# Altium integrated library Capacitor - Aluminium TH.IntLib: 4591 symbols (part 53 of 68)
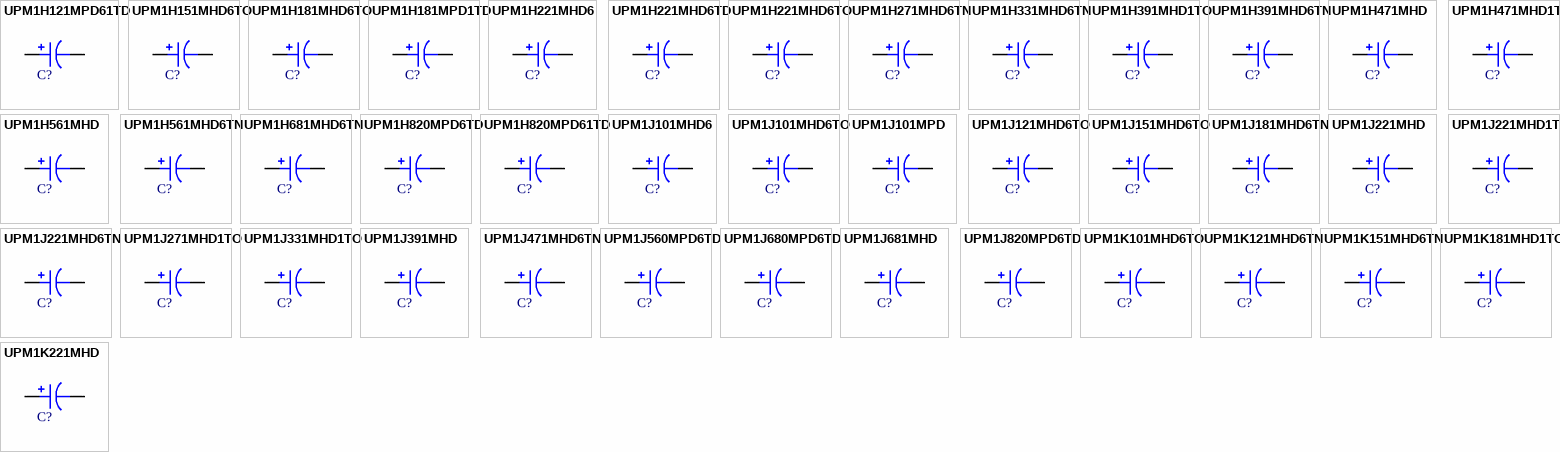
[diagram p166: symbols UPM1H121MPD61TD to UPM1K221MHD]

## UPM1J101MHD6
designator C?, comment 100uF  (value not drawn)
CAP ALUM 100UF 20% 63V RADIAL; Part Number: UPM1J101MHD6; Manufacturer: Nichicon; TemperatureRange: -55C ~ 105C; Type: Polar; Ripple Current: 460mA @ 120Hz; Impedance: 140 mOhm; Value: 100uF; PartId: 22727; Supplier 1: Digi-Key; Supplier Part Number 1: UPM1J101MHD6-ND; ComponentLink1Description: Datasheet; ComponentLink1URL: http://nichicon-us.com/english/products/pdfs/e-upm.pdf; ComponentLink2Description: Digi-Key Listing; ComponentLink2URL: https://www.digikey.com/product-detail/en/nichicon/UPM1J101MHD6/UPM1J101MHD6-ND/2428079; Tolerance: 20%; Voltage: 63V; Price: 0; Device Package: Radial, Can, 12.5mm
footprint CAP AL TH D12.5 L5 H16.5
pins: 1, 2

## UPM1J101MHD6TO
designator C?, comment 100uF  (value not drawn)
CAP ALUM 100UF 20% 63V RADIAL; Part Number: UPM1J101MHD6TO; Manufacturer: Nichicon; TemperatureRange: -55C ~ 105C; Type: Polar; Ripple Current: 460mA @ 120Hz; Impedance: 140 mOhm; Value: 100uF; PartId: 22739; Supplier 1: Digi-Key; Supplier Part Number 1: 493-11992-1-ND; ComponentLink1Description: Datasheet; ComponentLink1URL: http://nichicon-us.com/english/products/pdfs/e-upm.pdf; ComponentLink2Description: Digi-Key Listing; ComponentLink2URL: https://www.digikey.com/product-detail/en/nichicon/UPM1J101MHD6TO/493-11992-1-ND/4319613; Tolerance: 20%; Voltage: 63V; Price: 0; Device Package: Radial, Can, 12.5mm
footprint CAP AL TH D12.5 L5 H16.5
pins: 1, 2

## UPM1J101MPD
designator C?, comment 100uF  (value not drawn)
CAP ALUM 100UF 20% 63V RADIAL; Part Number: UPM1J101MPD; Manufacturer: Nichicon; TemperatureRange: -55C ~ 105C; Type: Polar; Ripple Current: 495mA @ 120Hz; Impedance: 120 mOhm; Value: 100uF; PartId: 25879; Supplier 1: Digi-Key; Supplier Part Number 1: UPM1J101MPD-ND; ComponentLink1Description: Datasheet; ComponentLink1URL: http://nichicon-us.com/english/products/pdfs/e-upm.pdf; ComponentLink2Description: Digi-Key Listing; ComponentLink2URL: https://www.digikey.com/product-detail/en/nichicon/UPM1J101MPD/UPM1J101MPD-ND/2428078; Tolerance: 20%; Voltage: 63V; Price: 0.64; Device Package: Radial, Can, 10mm
footprint CAP AL TH D10 L5 H22
pins: 1, 2

## UPM1J121MHD6TO
designator C?, comment 120uF  (value not drawn)
CAP ALUM 120UF 20% 63V RADIAL; Part Number: UPM1J121MHD6TO; Manufacturer: Nichicon; TemperatureRange: -55C ~ 105C; Type: Polar; Ripple Current: 510mA @ 120Hz; Impedance: 120 mOhm; Value: 120uF; PartId: 22814; Supplier 1: Digi-Key; Supplier Part Number 1: 493-5258-1-ND; ComponentLink1Description: Datasheet; ComponentLink1URL: http://nichicon-us.com/english/products/pdfs/e-upm.pdf; ComponentLink2Description: Digi-Key Listing; ComponentLink2URL: https://www.digikey.com/product-detail/en/nichicon/UPM1J121MHD6TO/493-5258-1-ND/3129595; Tolerance: 20%; Voltage: 63V; Price: 0; Device Package: Radial, Can, 12.5mm
footprint CAP AL TH D12.5 L5 H17.5
pins: 1, 2

## UPM1J151MHD6TO
designator C?, comment 150uF  (value not drawn)
CAP ALUM 150UF 20% 63V RADIAL; Part Number: UPM1J151MHD6TO; Manufacturer: Nichicon; TemperatureRange: -55C ~ 105C; Type: Polar; Ripple Current: 845mA @ 120Hz; Impedance: 95 mOhm; Value: 150uF; PartId: 22817; Supplier 1: Digi-Key; Supplier Part Number 1: 493-12066-1-ND; ComponentLink1Description: Datasheet; ComponentLink1URL: http://nichicon-us.com/english/products/pdfs/e-upm.pdf; ComponentLink2Description: Digi-Key Listing; ComponentLink2URL: https://www.digikey.com/product-detail/en/nichicon/UPM1J151MHD6TO/493-12066-1-ND/4319617; Tolerance: 20%; Voltage: 63V; Price: 0; Device Package: Radial, Can, 12.5mm
footprint CAP AL TH D12.5 L5 H17.5
pins: 1, 2

## UPM1J181MHD6TN
designator C?, comment 180uF  (value not drawn)
CAP ALUM 180UF 20% 63V RADIAL; Part Number: UPM1J181MHD6TN; Manufacturer: Nichicon; TemperatureRange: -55C ~ 105C; Type: Polar; Ripple Current: 750mA @ 120Hz; Impedance: 80 mOhm; Value: 180uF; PartId: 26264; Supplier 1: Digi-Key; Supplier Part Number 1: 493-5260-3-ND; ComponentLink1Description: Datasheet; ComponentLink1URL: http://nichicon-us.com/english/products/pdfs/e-upm.pdf; ComponentLink2Description: Digi-Key Listing; ComponentLink2URL: https://www.digikey.com/product-detail/en/nichicon/UPM1J181MHD6TN/493-5260-3-ND/3130265; Tolerance: 20%; Voltage: 63V; Price: 0.4223; Device Package: Radial, Can, 16mm
footprint CAP AL TH D16 L7.5 H16.5
pins: 1, 2

## UPM1J221MHD
designator C?, comment 220uF  (value not drawn)
CAP ALUM 220UF 20% 63V RADIAL; Part Number: UPM1J221MHD; Manufacturer: Nichicon; TemperatureRange: -55C ~ 105C; Type: Polar; Ripple Current: 835mA @ 120Hz; Impedance: 65 mOhm; Value: 220uF; PartId: 23315; Supplier 1: Digi-Key; Supplier Part Number 1: 493-6008-ND; ComponentLink1Description: Datasheet; ComponentLink1URL: http://nichicon-us.com/english/products/pdfs/e-upm.pdf; ComponentLink2Description: Digi-Key Listing; ComponentLink2URL: https://www.digikey.com/product-detail/en/nichicon/UPM1J221MHD/493-6008-ND/2599675; Tolerance: 20%; Voltage: 63V; Price: 0.82; Device Package: Radial, Can, 12.5mm
footprint CAP AL TH D12.5 L5 H22
pins: 1, 2

## UPM1J221MHD1TO
designator C?, comment 220uF  (value not drawn)
CAP ALUM 220UF 20% 63V RADIAL; Part Number: UPM1J221MHD1TO; Manufacturer: Nichicon; TemperatureRange: -55C ~ 105C; Type: Polar; Ripple Current: 835mA @ 120Hz; Impedance: 65 mOhm; Value: 220uF; PartId: 23162; Supplier 1: Digi-Key; Supplier Part Number 1: 493-12060-3-ND; ComponentLink1Description: Datasheet; ComponentLink1URL: http://nichicon-us.com/english/products/pdfs/e-upm.pdf; ComponentLink2Description: Digi-Key Listing; ComponentLink2URL: https://www.digikey.com/product-detail/en/nichicon/UPM1J221MHD1TO/493-12060-3-ND/4321203; Tolerance: 20%; Voltage: 63V; Price: 0.3287; Device Package: Radial, Can, 12.5mm
footprint CAP AL TH D12.5 L5 H22
pins: 1, 2

## UPM1J221MHD6TN
designator C?, comment 220uF  (value not drawn)
CAP ALUM 220UF 20% 63V RADIAL; Part Number: UPM1J221MHD6TN; Manufacturer: Nichicon; TemperatureRange: -55C ~ 105C; Type: Polar; Ripple Current: 820mA @ 120Hz; Impedance: 70 mOhm; Value: 220uF; PartId: 26274; Supplier 1: Digi-Key; Supplier Part Number 1: 493-12255-3-ND; ComponentLink1Description: Datasheet; ComponentLink1URL: http://nichicon-us.com/english/products/pdfs/e-upm.pdf; ComponentLink2Description: Digi-Key Listing; ComponentLink2URL: https://www.digikey.com/product-detail/en/nichicon/UPM1J221MHD6TN/493-12255-3-ND/4321398; Tolerance: 20%; Voltage: 63V; Price: 0.5822; Device Package: Radial, Can, 16mm
footprint CAP AL TH D16 L7.5 H20
pins: 1, 2

## UPM1J271MHD1TO
designator C?, comment 270uF  (value not drawn)
CAP ALUM 270UF 20% 63V RADIAL; Part Number: UPM1J271MHD1TO; Manufacturer: Nichicon; TemperatureRange: -55C ~ 105C; Type: Polar; Ripple Current: 1A @ 120Hz; Impedance: 55 mOhm; Value: 270uF; PartId: 23971; Supplier 1: Digi-Key; Supplier Part Number 1: 493-12118-1-ND; ComponentLink1Description: Datasheet; ComponentLink1URL: http://nichicon-us.com/english/products/pdfs/e-upm.pdf; ComponentLink2Description: Digi-Key Listing; ComponentLink2URL: https://www.digikey.com/product-detail/en/nichicon/UPM1J271MHD1TO/493-12118-1-ND/4319622; Tolerance: 20%; Voltage: 63V; Price: 1; Device Package: Radial, Can, 12.5mm
footprint CAP AL TH D12.5 L5 H27
pins: 1, 2

## UPM1J331MHD1TO
designator C?, comment 330uF  (value not drawn)
CAP ALUM 330UF 20% 63V RADIAL; Part Number: UPM1J331MHD1TO; Manufacturer: Nichicon; TemperatureRange: -55C ~ 105C; Type: Polar; Ripple Current: 1.09A @ 120Hz; Impedance: 49 mOhm; Value: 330uF; PartId: 23962; Supplier 1: Digi-Key; Supplier Part Number 1: 493-12152-1-ND; ComponentLink1Description: Datasheet; ComponentLink1URL: http://nichicon-us.com/english/products/pdfs/e-upm.pdf; ComponentLink2Description: Digi-Key Listing; ComponentLink2URL: https://www.digikey.com/product-detail/en/nichicon/UPM1J331MHD1TO/493-12152-1-ND/4319624; Tolerance: 20%; Voltage: 63V; Price: 0.98; Device Package: Radial, Can, 12.5mm
footprint CAP AL TH D12.5 L5 H27
pins: 1, 2

## UPM1J391MHD
designator C?, comment 390uF  (value not drawn)
CAP ALUM 390UF 20% 63V RADIAL; Part Number: UPM1J391MHD; Manufacturer: Nichicon; TemperatureRange: -55C ~ 105C; Type: Polar; Ripple Current: 1.26A @ 120Hz; Impedance: 43 mOhm; Value: 390uF; PartId: 24259; Supplier 1: Digi-Key; Supplier Part Number 1: 493-5618-ND; ComponentLink1Description: Datasheet; ComponentLink1URL: http://nichicon-us.com/english/products/pdfs/e-upm.pdf; ComponentLink2Description: Digi-Key Listing; ComponentLink2URL: https://www.digikey.com/product-detail/en/nichicon/UPM1J391MHD/493-5618-ND/2599683; Tolerance: 20%; Voltage: 63V; Price: 1.03; Device Package: Radial, Can, 12.5mm
footprint CAP AL TH D12.5 L5 H35.5
pins: 1, 2

## UPM1J471MHD6TN
designator C?, comment 470uF  (value not drawn)
CAP ALUM 470UF 20% 63V RADIAL; Part Number: UPM1J471MHD6TN; Manufacturer: Nichicon; TemperatureRange: -55C ~ 105C; Type: Polar; Ripple Current: 1.36A @ 120Hz; Impedance: 42 mOhm; Value: 470uF; PartId: 26772; Supplier 1: Digi-Key; Supplier Part Number 1: 493-7403-3-ND; ComponentLink1Description: Datasheet; ComponentLink1URL: http://nichicon-us.com/english/products/pdfs/e-upm.pdf; ComponentLink2Description: Digi-Key Listing; ComponentLink2URL: https://www.digikey.com/product-detail/en/nichicon/UPM1J471MHD6TN/493-7403-3-ND/3768716; Tolerance: 20%; Voltage: 63V; Price: 0.62; Device Package: Radial, Can, 16mm
footprint CAP AL TH D16 L7.5 H27
pins: 1, 2

## UPM1J560MPD6TD
designator C?, comment 56uF  (value not drawn)
CAP ALUM 56UF 20% 63V RADIAL; Part Number: UPM1J560MPD6TD; Manufacturer: Nichicon; TemperatureRange: -55C ~ 105C; Type: Polar; Ripple Current: 275mA @ 120Hz; Impedance: 230 mOhm; Value: 56uF; PartId: 24894; Supplier 1: Digi-Key; Supplier Part Number 1: 493-11793-1-ND; ComponentLink1Description: Datasheet; ComponentLink1URL: http://nichicon-us.com/english/products/pdfs/e-upm.pdf; ComponentLink2Description: Digi-Key Listing; ComponentLink2URL: https://www.digikey.com/product-detail/en/nichicon/UPM1J560MPD6TD/493-11793-1-ND/4319630; Tolerance: 20%; Voltage: 63V; Price: 0.48; Device Package: Radial, Can, 10mm
footprint CAP AL TH D10 L5 H14.5
pins: 1, 2

## UPM1J680MPD6TD
designator C?, comment 68uF  (value not drawn)
CAP ALUM 68UF 20% 63V RADIAL; Part Number: UPM1J680MPD6TD; Manufacturer: Nichicon; TemperatureRange: -55C ~ 105C; Type: Polar; Ripple Current: 310mA @ 120Hz; Impedance: 190 mOhm; Value: 68uF; PartId: 24577; Supplier 1: Digi-Key; Supplier Part Number 1: 493-11835-3-ND; ComponentLink1Description: Datasheet; ComponentLink1URL: http://nichicon-us.com/english/products/pdfs/e-upm.pdf; ComponentLink2Description: Digi-Key Listing; ComponentLink2URL: https://www.digikey.com/product-detail/en/nichicon/UPM1J680MPD6TD/493-11835-3-ND/4320978; Tolerance: 20%; Voltage: 63V; Price: 0.1612; Device Package: Radial, Can, 10mm
footprint CAP AL TH D10 L5 H14.5
pins: 1, 2

## UPM1J681MHD
designator C?, comment 680uF  (value not drawn)
CAP ALUM 680UF 20% 63V RADIAL; Part Number: UPM1J681MHD; Manufacturer: Nichicon; TemperatureRange: -55C ~ 105C; Type: Polar; Ripple Current: 1.7A @ 120Hz; Impedance: 32 mOhm; Value: 680uF; PartId: 27020; Supplier 1: Digi-Key; Supplier Part Number 1: 493-5619-ND; ComponentLink1Description: Datasheet; ComponentLink1URL: http://nichicon-us.com/english/products/pdfs/e-upm.pdf; ComponentLink2Description: Digi-Key Listing; ComponentLink2URL: https://www.digikey.com/product-detail/en/nichicon/UPM1J681MHD/493-5619-ND/2599693; Tolerance: 20%; Voltage: 63V; Price: 1.45; Device Package: Radial, Can, 16mm
footprint CAP AL TH D16 L7.5 H33.5
pins: 1, 2

## UPM1J820MPD6TD
designator C?, comment 82uF  (value not drawn)
CAP ALUM 82UF 20% 63V RADIAL; Part Number: UPM1J820MPD6TD; Manufacturer: Nichicon; TemperatureRange: -55C ~ 105C; Type: Polar; Ripple Current: 375mA @ 120Hz; Impedance: 160 mOhm; Value: 82uF; PartId: 25066; Supplier 1: Digi-Key; Supplier Part Number 1: 493-5266-3-ND; ComponentLink1Description: Datasheet; ComponentLink1URL: http://nichicon-us.com/english/products/pdfs/e-upm.pdf; ComponentLink2Description: Digi-Key Listing; ComponentLink2URL: https://www.digikey.com/product-detail/en/nichicon/UPM1J820MPD6TD/493-5266-3-ND/3130271; Tolerance: 20%; Voltage: 63V; Price: 0.225; Device Package: Radial, Can, 10mm
footprint CAP AL TH D10 L5 H17.5
pins: 1, 2

## UPM1K101MHD6TO
designator C?, comment 100uF  (value not drawn)
CAP ALUM 100UF 20% 80V RADIAL; Part Number: UPM1K101MHD6TO; Manufacturer: Nichicon; TemperatureRange: -55C ~ 105C; Type: Polar; Ripple Current: 400mA @ 120Hz; Impedance: 230 mOhm; Value: 100uF; PartId: 22812; Supplier 1: Digi-Key; Supplier Part Number 1: 493-12056-1-ND; ComponentLink1Description: Datasheet; ComponentLink1URL: http://nichicon-us.com/english/products/pdfs/e-upm.pdf; ComponentLink2Description: Digi-Key Listing; ComponentLink2URL: https://www.digikey.com/product-detail/en/nichicon/UPM1K101MHD6TO/493-12056-1-ND/4319634; Tolerance: 20%; Voltage: 80V; Price: 0; Device Package: Radial, Can, 12.5mm
footprint CAP AL TH D12.5 L5 H17.5
pins: 1, 2

## UPM1K121MHD6TN
designator C?, comment 120uF  (value not drawn)
CAP ALUM 120UF 20% 80V RADIAL; Part Number: UPM1K121MHD6TN; Manufacturer: Nichicon; TemperatureRange: -55C ~ 105C; Type: Polar; Ripple Current: 445mA @ 120Hz; Impedance: 200 mOhm; Value: 120uF; PartId: 26268; Supplier 1: Digi-Key; Supplier Part Number 1: 493-5269-3-ND; ComponentLink1Description: Datasheet; ComponentLink1URL: http://nichicon-us.com/english/products/pdfs/e-upm.pdf; ComponentLink2Description: Digi-Key Listing; ComponentLink2URL: https://www.digikey.com/product-detail/en/nichicon/UPM1K121MHD6TN/493-5269-3-ND/3130274; Tolerance: 20%; Voltage: 80V; Price: 0.514; Device Package: Radial, Can, 16mm
footprint CAP AL TH D16 L7.5 H20
pins: 1, 2

## UPM1K151MHD6TN
designator C?, comment 150uF  (value not drawn)
CAP ALUM 150UF 20% 80V RADIAL; Part Number: UPM1K151MHD6TN; Manufacturer: Nichicon; TemperatureRange: -55C ~ 105C; Type: Polar; Ripple Current: 470mA @ 120Hz; Impedance: 180 mOhm; Value: 150uF; PartId: 26275; Supplier 1: Digi-Key; Supplier Part Number 1: 493-5271-3-ND; ComponentLink1Description: Datasheet; ComponentLink1URL: http://nichicon-us.com/english/products/pdfs/e-upm.pdf; ComponentLink2Description: Digi-Key Listing; ComponentLink2URL: https://www.digikey.com/product-detail/en/nichicon/UPM1K151MHD6TN/493-5271-3-ND/3130276; Tolerance: 20%; Voltage: 80V; Price: 0.5838; Device Package: Radial, Can, 16mm
footprint CAP AL TH D16 L7.5 H20
pins: 1, 2

## UPM1K181MHD1TO
designator C?, comment 180uF  (value not drawn)
CAP ALUM 180UF 20% 80V RADIAL; Part Number: UPM1K181MHD1TO; Manufacturer: Nichicon; TemperatureRange: -55C ~ 105C; Type: Polar; Ripple Current: 735mA @ 120Hz; Impedance: 130 mOhm; Value: 180uF; PartId: 23826; Supplier 1: Digi-Key; Supplier Part Number 1: 493-5273-3-ND; ComponentLink1Description: Datasheet; ComponentLink1URL: http://nichicon-us.com/english/products/pdfs/e-upm.pdf; ComponentLink2Description: Digi-Key Listing; ComponentLink2URL: https://www.digikey.com/product-detail/en/nichicon/UPM1K181MHD1TO/493-5273-3-ND/3130278; Tolerance: 20%; Voltage: 80V; Price: 0.4493; Device Package: Radial, Can, 12.5mm
footprint CAP AL TH D12.5 L5 H27
pins: 1, 2

## UPM1K221MHD
designator C?, comment 220uF  (value not drawn)
CAP ALUM 220UF 20% 80V RADIAL; Part Number: UPM1K221MHD; Manufacturer: Nichicon; TemperatureRange: -55C ~ 105C; Type: Polar; Ripple Current: 845mA @ 120Hz; Impedance: 120 mOhm; Value: 220uF; PartId: 24234; Supplier 1: Digi-Key; Supplier Part Number 1: 493-5622-ND; ComponentLink1Description: Datasheet; ComponentLink1URL: http://nichicon-us.com/english/products/pdfs/e-upm.pdf; ComponentLink2Description: Digi-Key Listing; ComponentLink2URL: https://www.digikey.com/product-detail/en/nichicon/UPM1K221MHD/493-5622-ND/2599713; Tolerance: 20%; Voltage: 80V; Price: 0.98; Device Package: Radial, Can, 12.5mm
footprint CAP AL TH D12.5 L5 H35.5
pins: 1, 2

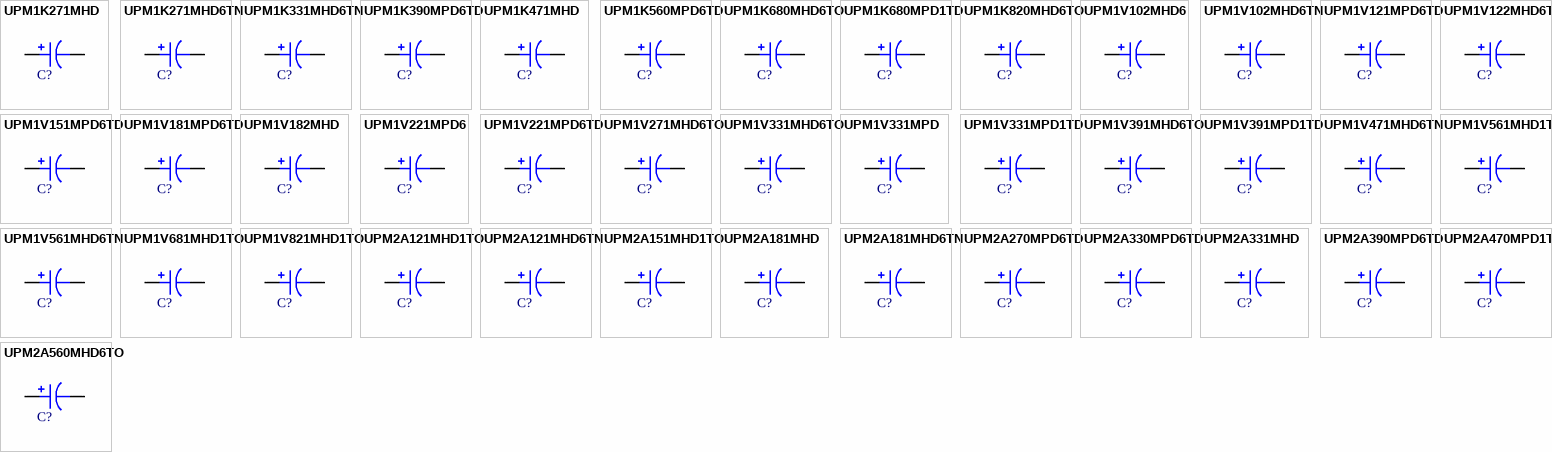
[diagram p88: symbols UPM1K271MHD to UPM2A560MHD6TO]

## UPM1K271MHD
designator C?, comment 270uF  (value not drawn)
CAP ALUM 270UF 20% 80V RADIAL; Part Number: UPM1K271MHD; Manufacturer: Nichicon; TemperatureRange: -55C ~ 105C; Type: Polar; Ripple Current: 945mA @ 120Hz; Impedance: 100 mOhm; Value: 270uF; PartId: 24273; Supplier 1: Digi-Key; Supplier Part Number 1: 493-5623-ND; ComponentLink1Description: Datasheet; ComponentLink1URL: http://nichicon-us.com/english/products/pdfs/e-upm.pdf; ComponentLink2Description: Digi-Key Listing; ComponentLink2URL: https://www.digikey.com/product-detail/en/nichicon/UPM1K271MHD/493-5623-ND/2599716; Tolerance: 20%; Voltage: 80V; Price: 1.06; Device Package: Radial, Can, 12.5mm
footprint CAP AL TH D12.5 L5 H35.5
pins: 1, 2

## UPM1K271MHD6TN
designator C?, comment 270uF  (value not drawn)
CAP ALUM 270UF 20% 80V RADIAL; Part Number: UPM1K271MHD6TN; Manufacturer: Nichicon; TemperatureRange: -55C ~ 105C; Type: Polar; Ripple Current: 920mA @ 120Hz; Impedance: 110 mOhm; Value: 270uF; PartId: 26353; Supplier 1: Digi-Key; Supplier Part Number 1: 493-5276-3-ND; ComponentLink1Description: Datasheet; ComponentLink1URL: http://nichicon-us.com/english/products/pdfs/e-upm.pdf; ComponentLink2Description: Digi-Key Listing; ComponentLink2URL: https://www.digikey.com/product-detail/en/nichicon/UPM1K271MHD6TN/493-5276-3-ND/3130281; Tolerance: 20%; Voltage: 80V; Price: 0.5065; Device Package: Radial, Can, 16mm
footprint CAP AL TH D16 L7.5 H22
pins: 1, 2

## UPM1K331MHD6TN
designator C?, comment 330uF  (value not drawn)
CAP ALUM 330UF 20% 80V RADIAL; Part Number: UPM1K331MHD6TN; Manufacturer: Nichicon; TemperatureRange: -55C ~ 105C; Type: Polar; Ripple Current: 1.1A @ 120Hz; Impedance: 99 mOhm; Value: 330uF; PartId: 26776; Supplier 1: Digi-Key; Supplier Part Number 1: 493-5277-3-ND; ComponentLink1Description: Datasheet; ComponentLink1URL: http://nichicon-us.com/english/products/pdfs/e-upm.pdf; ComponentLink2Description: Digi-Key Listing; ComponentLink2URL: https://www.digikey.com/product-detail/en/nichicon/UPM1K331MHD6TN/493-5277-3-ND/3130282; Tolerance: 20%; Voltage: 80V; Price: 0.6296; Device Package: Radial, Can, 16mm
footprint CAP AL TH D16 L7.5 H27
pins: 1, 2

## UPM1K390MPD6TD
designator C?, comment 39uF  (value not drawn)
CAP ALUM 39UF 20% 80V RADIAL; Part Number: UPM1K390MPD6TD; Manufacturer: Nichicon; TemperatureRange: -55C ~ 105C; Type: Polar; Ripple Current: 215mA @ 120Hz; Impedance: 490 mOhm; Value: 39uF; PartId: 24548; Supplier 1: Digi-Key; Supplier Part Number 1: 493-5279-3-ND; ComponentLink1Description: Datasheet; ComponentLink1URL: http://nichicon-us.com/english/products/pdfs/e-upm.pdf; ComponentLink2Description: Digi-Key Listing; ComponentLink2URL: https://www.digikey.com/product-detail/en/nichicon/UPM1K390MPD6TD/493-5279-3-ND/3130284; Tolerance: 20%; Voltage: 80V; Price: 0.148; Device Package: Radial, Can, 10mm
footprint CAP AL TH D10 L5 H14.5
pins: 1, 2

## UPM1K471MHD
designator C?, comment 470uF  (value not drawn)
CAP ALUM 470UF 20% 80V RADIAL; Part Number: UPM1K471MHD; Manufacturer: Nichicon; TemperatureRange: -55C ~ 105C; Type: Polar; Ripple Current: 1.43A @ 120Hz; Impedance: 69 mOhm; Value: 470uF; PartId: 27153; Supplier 1: Digi-Key; Supplier Part Number 1: 493-11131-ND; ComponentLink1Description: Datasheet; ComponentLink1URL: http://nichicon-us.com/english/products/pdfs/e-upm.pdf; ComponentLink2Description: Digi-Key Listing; ComponentLink2URL: https://www.digikey.com/product-detail/en/nichicon/UPM1K471MHD/493-11131-ND/2599727; Tolerance: 20%; Voltage: 80V; Price: 1.85; Device Package: Radial, Can, 16mm
footprint CAP AL TH D16 L7.5 H33.5
pins: 1, 2

## UPM1K560MPD6TD
designator C?, comment 56uF  (value not drawn)
CAP ALUM 56UF 20% 80V RADIAL; Part Number: UPM1K560MPD6TD; Manufacturer: Nichicon; TemperatureRange: -55C ~ 105C; Type: Polar; Ripple Current: 305mA @ 120Hz; Impedance: 360 mOhm; Value: 56uF; PartId: 25043; Supplier 1: Digi-Key; Supplier Part Number 1: 493-11901-3-ND; ComponentLink1Description: Datasheet; ComponentLink1URL: http://nichicon-us.com/english/products/pdfs/e-upm.pdf; ComponentLink2Description: Digi-Key Listing; ComponentLink2URL: https://www.digikey.com/product-detail/en/nichicon/UPM1K560MPD6TD/493-11901-3-ND/4321044; Tolerance: 20%; Voltage: 80V; Price: 0.192; Device Package: Radial, Can, 10mm
footprint CAP AL TH D10 L5 H17.5
pins: 1, 2

## UPM1K680MHD6TO
designator C?, comment 68uF  (value not drawn)
CAP ALUM 68UF 20% 80V RADIAL; Part Number: UPM1K680MHD6TO; Manufacturer: Nichicon; TemperatureRange: -55C ~ 105C; Type: Polar; Ripple Current: 325mA @ 120Hz; Impedance: 310 mOhm; Value: 68uF; PartId: 22809; Supplier 1: Digi-Key; Supplier Part Number 1: 493-5283-1-ND; ComponentLink1Description: Datasheet; ComponentLink1URL: http://nichicon-us.com/english/products/pdfs/e-upm.pdf; ComponentLink2Description: Digi-Key Listing; ComponentLink2URL: https://www.digikey.com/product-detail/en/nichicon/UPM1K680MHD6TO/493-5283-1-ND/3129620; Tolerance: 20%; Voltage: 80V; Price: 0; Device Package: Radial, Can, 12.5mm
footprint CAP AL TH D12.5 L5 H17.5
pins: 1, 2

## UPM1K680MPD1TD
designator C?, comment 68uF  (value not drawn)
CAP ALUM 68UF 20% 80V RADIAL; Part Number: UPM1K680MPD1TD; Manufacturer: Nichicon; TemperatureRange: -55C ~ 105C; Type: Polar; Ripple Current: 355mA @ 120Hz; Impedance: 280 mOhm; Value: 68uF; PartId: 25765; Supplier 1: Digi-Key; Supplier Part Number 1: 493-5284-3-ND; ComponentLink1Description: Datasheet; ComponentLink1URL: http://nichicon-us.com/english/products/pdfs/e-upm.pdf; ComponentLink2Description: Digi-Key Listing; ComponentLink2URL: https://www.digikey.com/product-detail/en/nichicon/UPM1K680MPD1TD/493-5284-3-ND/3130289; Tolerance: 20%; Voltage: 80V; Price: 0.2206; Device Package: Radial, Can, 10mm
footprint CAP AL TH D10 L5 H22
pins: 1, 2

## UPM1K820MHD6TO
designator C?, comment 82uF  (value not drawn)
CAP ALUM 82UF 20% 80V RADIAL; Part Number: UPM1K820MHD6TO; Manufacturer: Nichicon; TemperatureRange: -55C ~ 105C; Type: Polar; Ripple Current: 355mA @ 120Hz; Impedance: 270 mOhm; Value: 82uF; PartId: 22811; Supplier 1: Digi-Key; Supplier Part Number 1: 493-5286-1-ND; ComponentLink1Description: Datasheet; ComponentLink1URL: http://nichicon-us.com/english/products/pdfs/e-upm.pdf; ComponentLink2Description: Digi-Key Listing; ComponentLink2URL: https://www.digikey.com/product-detail/en/nichicon/UPM1K820MHD6TO/493-5286-1-ND/3129623; Tolerance: 20%; Voltage: 80V; Price: 0; Device Package: Radial, Can, 12.5mm
footprint CAP AL TH D12.5 L5 H17.5
pins: 1, 2

## UPM1V102MHD6
designator C?, comment 1000uF  (value not drawn)
CAP ALUM 1000UF 20% 35V RADIAL; Part Number: UPM1V102MHD6; Manufacturer: Nichicon; TemperatureRange: -55C ~ 105C; Type: Polar; Ripple Current: 1.53A @ 120Hz; Impedance: 34 mOhm; Value: 1000uF; PartId: 26441; Supplier 1: Digi-Key; Supplier Part Number 1: UPM1V102MHD6-ND; ComponentLink1Description: Datasheet; ComponentLink1URL: http://nichicon-us.com/english/products/pdfs/e-upm.pdf; ComponentLink2Description: Digi-Key Listing; ComponentLink2URL: https://www.digikey.com/product-detail/en/nichicon/UPM1V102MHD6/UPM1V102MHD6-ND/2599743; Tolerance: 20%; Voltage: 35V; Price: 1.37; Device Package: Radial, Can, 16mm
footprint CAP AL TH D16 L7.5 H22
pins: 1, 2

## UPM1V102MHD6TN
designator C?, comment 1000uF  (value not drawn)
CAP ALUM 1000UF 20% 35V RADIAL; Part Number: UPM1V102MHD6TN; Manufacturer: Nichicon; TemperatureRange: -55C ~ 105C; Type: Polar; Ripple Current: 1.53A @ 120Hz; Impedance: 34 mOhm; Value: 1000uF; PartId: 26371; Supplier 1: Digi-Key; Supplier Part Number 1: 493-12252-3-ND; ComponentLink1Description: Datasheet; ComponentLink1URL: http://nichicon-us.com/english/products/pdfs/e-upm.pdf; ComponentLink2Description: Digi-Key Listing; ComponentLink2URL: https://www.digikey.com/product-detail/en/nichicon/UPM1V102MHD6TN/493-12252-3-ND/4321395; Tolerance: 20%; Voltage: 35V; Price: 0.5792; Device Package: Radial, Can, 16mm
footprint CAP AL TH D16 L7.5 H22
pins: 1, 2

## UPM1V121MPD6TD
designator C?, comment 120uF  (value not drawn)
CAP ALUM 120UF 20% 35V RADIAL; Part Number: UPM1V121MPD6TD; Manufacturer: Nichicon; TemperatureRange: -55C ~ 105C; Type: Polar; Ripple Current: 425mA @ 120Hz; Impedance: 150 mOhm; Value: 120uF; PartId: 24550; Supplier 1: Digi-Key; Supplier Part Number 1: 493-5288-3-ND; ComponentLink1Description: Datasheet; ComponentLink1URL: http://nichicon-us.com/english/products/pdfs/e-upm.pdf; ComponentLink2Description: Digi-Key Listing; ComponentLink2URL: https://www.digikey.com/product-detail/en/nichicon/UPM1V121MPD6TD/493-5288-3-ND/3130293; Tolerance: 20%; Voltage: 35V; Price: 0.1484; Device Package: Radial, Can, 10mm
footprint CAP AL TH D10 L5 H14.5
pins: 1, 2

## UPM1V122MHD6TN
designator C?, comment 1200uF  (value not drawn)
CAP ALUM 1200UF 20% 35V RADIAL; Part Number: UPM1V122MHD6TN; Manufacturer: Nichicon; TemperatureRange: -55C ~ 105C; Type: Polar; Ripple Current: 1.92A @ 120Hz; Impedance: 31 mOhm; Value: 1200uF; PartId: 26783; Supplier 1: Digi-Key; Supplier Part Number 1: 493-5289-3-ND; ComponentLink1Description: Datasheet; ComponentLink1URL: http://nichicon-us.com/english/products/pdfs/e-upm.pdf; ComponentLink2Description: Digi-Key Listing; ComponentLink2URL: https://www.digikey.com/product-detail/en/nichicon/UPM1V122MHD6TN/493-5289-3-ND/3130294; Tolerance: 20%; Voltage: 35V; Price: 0.6568; Device Package: Radial, Can, 16mm
footprint CAP AL TH D16 L7.5 H27
pins: 1, 2

## UPM1V151MPD6TD
designator C?, comment 150uF  (value not drawn)
CAP ALUM 150UF 20% 35V RADIAL; Part Number: UPM1V151MPD6TD; Manufacturer: Nichicon; TemperatureRange: -55C ~ 105C; Type: Polar; Ripple Current: 475mA @ 120Hz; Impedance: 120 mOhm; Value: 150uF; PartId: 24546; Supplier 1: Digi-Key; Supplier Part Number 1: 493-11795-3-ND; ComponentLink1Description: Datasheet; ComponentLink1URL: http://nichicon-us.com/english/products/pdfs/e-upm.pdf; ComponentLink2Description: Digi-Key Listing; ComponentLink2URL: https://www.digikey.com/product-detail/en/nichicon/UPM1V151MPD6TD/493-11795-3-ND/4320938; Tolerance: 20%; Voltage: 35V; Price: 0.148; Device Package: Radial, Can, 10mm
footprint CAP AL TH D10 L5 H14.5
pins: 1, 2

## UPM1V181MPD6TD
designator C?, comment 180uF  (value not drawn)
CAP ALUM 180UF 20% 35V RADIAL; Part Number: UPM1V181MPD6TD; Manufacturer: Nichicon; TemperatureRange: -55C ~ 105C; Type: Polar; Ripple Current: 500mA @ 120Hz; Impedance: 110 mOhm; Value: 180uF; PartId: 25050; Supplier 1: Digi-Key; Supplier Part Number 1: 493-5290-3-ND; ComponentLink1Description: Datasheet; ComponentLink1URL: http://nichicon-us.com/english/products/pdfs/e-upm.pdf; ComponentLink2Description: Digi-Key Listing; ComponentLink2URL: https://www.digikey.com/product-detail/en/nichicon/UPM1V181MPD6TD/493-5290-3-ND/3130295; Tolerance: 20%; Voltage: 35V; Price: 0.2038; Device Package: Radial, Can, 10mm
footprint CAP AL TH D10 L5 H17.5
pins: 1, 2

## UPM1V182MHD
designator C?, comment 1800uF  (value not drawn)
CAP ALUM 1800UF 20% 35V RADIAL; Part Number: UPM1V182MHD; Manufacturer: Nichicon; TemperatureRange: -55C ~ 105C; Type: Polar; Ripple Current: 2.25A @ 120Hz; Impedance: 22 mOhm; Value: 1800uF; PartId: 27163; Supplier 1: Digi-Key; Supplier Part Number 1: 493-11132-ND; ComponentLink1Description: Datasheet; ComponentLink1URL: http://nichicon-us.com/english/products/pdfs/e-upm.pdf; ComponentLink2Description: Digi-Key Listing; ComponentLink2URL: https://www.digikey.com/product-detail/en/nichicon/UPM1V182MHD/493-11132-ND/2599753; Tolerance: 20%; Voltage: 35V; Price: 1.87; Device Package: Radial, Can, 16mm
footprint CAP AL TH D16 L7.5 H33.5
pins: 1, 2

## UPM1V221MPD6
designator C?, comment 220uF  (value not drawn)
CAP ALUM 220UF 20% 35V RADIAL; Part Number: UPM1V221MPD6; Manufacturer: Nichicon; TemperatureRange: -55C ~ 105C; Type: Polar; Ripple Current: 600mA @ 120Hz; Impedance: 90 mOhm; Value: 220uF; PartId: 25275; Supplier 1: Digi-Key; Supplier Part Number 1: UPM1V221MPD6-ND; ComponentLink1Description: Datasheet; ComponentLink1URL: http://nichicon-us.com/english/products/pdfs/e-upm.pdf; ComponentLink2Description: Digi-Key Listing; ComponentLink2URL: https://www.digikey.com/product-detail/en/nichicon/UPM1V221MPD6/UPM1V221MPD6-ND/2428074; Tolerance: 20%; Voltage: 35V; Price: 0.61; Device Package: Radial, Can, 10mm
footprint CAP AL TH D10 L5 H17.5
pins: 1, 2

## UPM1V221MPD6TD
designator C?, comment 220uF  (value not drawn)
CAP ALUM 220UF 20% 35V RADIAL; Part Number: UPM1V221MPD6TD; Manufacturer: Nichicon; TemperatureRange: -55C ~ 105C; Type: Polar; Ripple Current: 600mA @ 120Hz; Impedance: 90 mOhm; Value: 220uF; PartId: 25052; Supplier 1: Digi-Key; Supplier Part Number 1: 493-11934-3-ND; ComponentLink1Description: Datasheet; ComponentLink1URL: http://nichicon-us.com/english/products/pdfs/e-upm.pdf; ComponentLink2Description: Digi-Key Listing; ComponentLink2URL: https://www.digikey.com/product-detail/en/nichicon/UPM1V221MPD6TD/493-11934-3-ND/4321077; Tolerance: 20%; Voltage: 35V; Price: 0.2096; Device Package: Radial, Can, 10mm
footprint CAP AL TH D10 L5 H17.5
pins: 1, 2

## UPM1V271MHD6TO
designator C?, comment 270uF  (value not drawn)
CAP ALUM 270UF 20% 35V RADIAL; Part Number: UPM1V271MHD6TO; Manufacturer: Nichicon; TemperatureRange: -55C ~ 105C; Type: Polar; Ripple Current: 690mA @ 120Hz; Impedance: 80 mOhm; Value: 270uF; PartId: 22807; Supplier 1: Digi-Key; Supplier Part Number 1: 493-12023-1-ND; ComponentLink1Description: Datasheet; ComponentLink1URL: http://nichicon-us.com/english/products/pdfs/e-upm.pdf; ComponentLink2Description: Digi-Key Listing; ComponentLink2URL: https://www.digikey.com/product-detail/en/nichicon/UPM1V271MHD6TO/493-12023-1-ND/4319654; Tolerance: 20%; Voltage: 35V; Price: 0; Device Package: Radial, Can, 12.5mm
footprint CAP AL TH D12.5 L5 H17.5
pins: 1, 2

## UPM1V331MHD6TO
designator C?, comment 330uF  (value not drawn)
CAP ALUM 330UF 20% 35V RADIAL; Part Number: UPM1V331MHD6TO; Manufacturer: Nichicon; TemperatureRange: -55C ~ 105C; Type: Polar; Ripple Current: 780mA @ 120Hz; Impedance: 65 mOhm; Value: 330uF; PartId: 22806; Supplier 1: Digi-Key; Supplier Part Number 1: 493-12024-1-ND; ComponentLink1Description: Datasheet; ComponentLink1URL: http://nichicon-us.com/english/products/pdfs/e-upm.pdf; ComponentLink2Description: Digi-Key Listing; ComponentLink2URL: https://www.digikey.com/product-detail/en/nichicon/UPM1V331MHD6TO/493-12024-1-ND/4319657; Tolerance: 20%; Voltage: 35V; Price: 0; Device Package: Radial, Can, 12.5mm
footprint CAP AL TH D12.5 L5 H17.5
pins: 1, 2

## UPM1V331MPD
designator C?, comment 330uF  (value not drawn)
CAP ALUM 330UF 20% 35V RADIAL; Part Number: UPM1V331MPD; Manufacturer: Nichicon; TemperatureRange: -55C ~ 105C; Type: Polar; Ripple Current: 810mA @ 120Hz; Impedance: 60 mOhm; Value: 330uF; PartId: 25859; Supplier 1: Digi-Key; Supplier Part Number 1: UPM1V331MPD-ND; ComponentLink1Description: Datasheet; ComponentLink1URL: http://nichicon-us.com/english/products/pdfs/e-upm.pdf; ComponentLink2Description: Digi-Key Listing; ComponentLink2URL: https://www.digikey.com/product-detail/en/nichicon/UPM1V331MPD/UPM1V331MPD-ND/2428072; Tolerance: 20%; Voltage: 35V; Price: 0.59; Device Package: Radial, Can, 10mm
footprint CAP AL TH D10 L5 H22
pins: 1, 2

## UPM1V331MPD1TD
designator C?, comment 330uF  (value not drawn)
CAP ALUM 330UF 20% 35V RADIAL; Part Number: UPM1V331MPD1TD; Manufacturer: Nichicon; TemperatureRange: -55C ~ 105C; Type: Polar; Ripple Current: 810mA @ 120Hz; Impedance: 60 mOhm; Value: 330uF; PartId: 25752; Supplier 1: Digi-Key; Supplier Part Number 1: 493-11134-3-ND; ComponentLink1Description: Datasheet; ComponentLink1URL: http://nichicon-us.com/english/products/pdfs/e-upm.pdf; ComponentLink2Description: Digi-Key Listing; ComponentLink2URL: https://www.digikey.com/product-detail/en/nichicon/UPM1V331MPD1TD/493-11134-3-ND/3878178; Tolerance: 20%; Voltage: 35V; Price: 0.2026; Device Package: Radial, Can, 10mm
footprint CAP AL TH D10 L5 H22
pins: 1, 2

## UPM1V391MHD6TO
designator C?, comment 390uF  (value not drawn)
CAP ALUM 390UF 20% 35V RADIAL; Part Number: UPM1V391MHD6TO; Manufacturer: Nichicon; TemperatureRange: -55C ~ 105C; Type: Polar; Ripple Current: 825mA @ 120Hz; Impedance: 60 mOhm; Value: 390uF; PartId: 22805; Supplier 1: Digi-Key; Supplier Part Number 1: 493-12051-1-ND; ComponentLink1Description: Datasheet; ComponentLink1URL: http://nichicon-us.com/english/products/pdfs/e-upm.pdf; ComponentLink2Description: Digi-Key Listing; ComponentLink2URL: https://www.digikey.com/product-detail/en/nichicon/UPM1V391MHD6TO/493-12051-1-ND/4319660; Tolerance: 20%; Voltage: 35V; Price: 0; Device Package: Radial, Can, 12.5mm
footprint CAP AL TH D12.5 L5 H17.5
pins: 1, 2

## UPM1V391MPD1TD
designator C?, comment 390uF  (value not drawn)
CAP ALUM 390UF 20% 35V RADIAL; Part Number: UPM1V391MPD1TD; Manufacturer: Nichicon; TemperatureRange: -55C ~ 105C; Type: Polar; Ripple Current: 980mA @ 120Hz; Impedance: 55 mOhm; Value: 390uF; PartId: 26013; Supplier 1: Digi-Key; Supplier Part Number 1: 493-7405-2-ND; ComponentLink1Description: Datasheet; ComponentLink1URL: http://nichicon-us.com/english/products/pdfs/e-upm.pdf; ComponentLink2Description: Digi-Key Listing; ComponentLink2URL: https://www.digikey.com/product-detail/en/nichicon/UPM1V391MPD1TD/493-7405-2-ND/3768720; Tolerance: 20%; Voltage: 35V; Price: 0.2967; Device Package: Radial, Can, 10mm
footprint CAP AL TH D10 L5 H30
pins: 1, 2

## UPM1V471MHD6TN
designator C?, comment 470uF  (value not drawn)
CAP ALUM 470UF 20% 35V RADIAL; Part Number: UPM1V471MHD6TN; Manufacturer: Nichicon; TemperatureRange: -55C ~ 105C; Type: Polar; Ripple Current: 1.01A @ 120Hz; Impedance: 55 mOhm; Value: 470uF; PartId: 26269; Supplier 1: Digi-Key; Supplier Part Number 1: 493-12209-3-ND; ComponentLink1Description: Datasheet; ComponentLink1URL: http://nichicon-us.com/english/products/pdfs/e-upm.pdf; ComponentLink2Description: Digi-Key Listing; ComponentLink2URL: https://www.digikey.com/product-detail/en/nichicon/UPM1V471MHD6TN/493-12209-3-ND/4321352; Tolerance: 20%; Voltage: 35V; Price: 0.5376; Device Package: Radial, Can, 16mm
footprint CAP AL TH D16 L7.5 H20
pins: 1, 2

## UPM1V561MHD1TO
designator C?, comment 560uF  (value not drawn)
CAP ALUM 560UF 20% 35V RADIAL; Part Number: UPM1V561MHD1TO; Manufacturer: Nichicon; TemperatureRange: -55C ~ 105C; Type: Polar; Ripple Current: 1.17A @ 120Hz; Impedance: 41 mOhm; Value: 560uF; PartId: 23144; Supplier 1: Digi-Key; Supplier Part Number 1: 493-7406-2-ND; ComponentLink1Description: Datasheet; ComponentLink1URL: http://nichicon-us.com/english/products/pdfs/e-upm.pdf; ComponentLink2Description: Digi-Key Listing; ComponentLink2URL: https://www.digikey.com/product-detail/en/nichicon/UPM1V561MHD1TO/493-7406-2-ND/3768722; Tolerance: 20%; Voltage: 35V; Price: 0.2774; Device Package: Radial, Can, 12.5mm
footprint CAP AL TH D12.5 L5 H22
pins: 1, 2

## UPM1V561MHD6TN
designator C?, comment 560uF  (value not drawn)
CAP ALUM 560UF 20% 35V RADIAL; Part Number: UPM1V561MHD6TN; Manufacturer: Nichicon; TemperatureRange: -55C ~ 105C; Type: Polar; Ripple Current: 1.11A @ 120Hz; Impedance: 48 mOhm; Value: 560uF; PartId: 26270; Supplier 1: Digi-Key; Supplier Part Number 1: 493-12210-3-ND; ComponentLink1Description: Datasheet; ComponentLink1URL: http://nichicon-us.com/english/products/pdfs/e-upm.pdf; ComponentLink2Description: Digi-Key Listing; ComponentLink2URL: https://www.digikey.com/product-detail/en/nichicon/UPM1V561MHD6TN/493-12210-3-ND/4321353; Tolerance: 20%; Voltage: 35V; Price: 0.5376; Device Package: Radial, Can, 16mm
footprint CAP AL TH D16 L7.5 H20
pins: 1, 2

## UPM1V681MHD1TO
designator C?, comment 680uF  (value not drawn)
CAP ALUM 680UF 20% 35V RADIAL; Part Number: UPM1V681MHD1TO; Manufacturer: Nichicon; TemperatureRange: -55C ~ 105C; Type: Polar; Ripple Current: 1.41A @ 120Hz; Impedance: 36 mOhm; Value: 680uF; PartId: 24005; Supplier 1: Digi-Key; Supplier Part Number 1: 493-7407-1-ND; ComponentLink1Description: Datasheet; ComponentLink1URL: http://nichicon-us.com/english/products/pdfs/e-upm.pdf; ComponentLink2Description: Digi-Key Listing; ComponentLink2URL: https://www.digikey.com/product-detail/en/nichicon/UPM1V681MHD1TO/493-7407-1-ND/3768723; Tolerance: 20%; Voltage: 35V; Price: 1.05; Device Package: Radial, Can, 12.5mm
footprint CAP AL TH D12.5 L5 H27
pins: 1, 2

## UPM1V821MHD1TO
designator C?, comment 820uF  (value not drawn)
CAP ALUM 820UF 20% 35V RADIAL; Part Number: UPM1V821MHD1TO; Manufacturer: Nichicon; TemperatureRange: -55C ~ 105C; Type: Polar; Ripple Current: 1.49A @ 120Hz; Impedance: 32 mOhm; Value: 820uF; PartId: 24059; Supplier 1: Digi-Key; Supplier Part Number 1: 493-12213-1-ND; ComponentLink1Description: Datasheet; ComponentLink1URL: http://nichicon-us.com/english/products/pdfs/e-upm.pdf; ComponentLink2Description: Digi-Key Listing; ComponentLink2URL: https://www.digikey.com/product-detail/en/nichicon/UPM1V821MHD1TO/493-12213-1-ND/4319667; Tolerance: 20%; Voltage: 35V; Price: 1.17; Device Package: Radial, Can, 12.5mm
footprint CAP AL TH D12.5 L5 H27
pins: 1, 2

## UPM2A121MHD1TO
designator C?, comment 120uF  (value not drawn)
CAP ALUM 120UF 20% 100V RADIAL; Part Number: UPM2A121MHD1TO; Manufacturer: Nichicon; TemperatureRange: -55C ~ 105C; Type: Polar; Ripple Current: 700mA @ 120Hz; Impedance: 130 mOhm; Value: 120uF; PartId: 23827; Supplier 1: Digi-Key; Supplier Part Number 1: 493-5294-3-ND; ComponentLink1Description: Datasheet; ComponentLink1URL: http://nichicon-us.com/english/products/pdfs/e-upm.pdf; ComponentLink2Description: Digi-Key Listing; ComponentLink2URL: https://www.digikey.com/product-detail/en/nichicon/UPM2A121MHD1TO/493-5294-3-ND/3130299; Tolerance: 20%; Voltage: 100V; Price: 0.4493; Device Package: Radial, Can, 12.5mm
footprint CAP AL TH D12.5 L5 H27
pins: 1, 2

## UPM2A121MHD6TN
designator C?, comment 120uF  (value not drawn)
CAP ALUM 120UF 20% 100V RADIAL; Part Number: UPM2A121MHD6TN; Manufacturer: Nichicon; TemperatureRange: -55C ~ 105C; Type: Polar; Ripple Current: 535mA @ 120Hz; Impedance: 140 mOhm; Value: 120uF; PartId: 26277; Supplier 1: Digi-Key; Supplier Part Number 1: 493-5295-3-ND; ComponentLink1Description: Datasheet; ComponentLink1URL: http://nichicon-us.com/english/products/pdfs/e-upm.pdf; ComponentLink2Description: Digi-Key Listing; ComponentLink2URL: https://www.digikey.com/product-detail/en/nichicon/UPM2A121MHD6TN/493-5295-3-ND/3130300; Tolerance: 20%; Voltage: 100V; Price: 0.6498; Device Package: Radial, Can, 16mm
footprint CAP AL TH D16 L7.5 H20
pins: 1, 2

## UPM2A151MHD1TO
designator C?, comment 150uF  (value not drawn)
CAP ALUM 150UF 20% 100V RADIAL; Part Number: UPM2A151MHD1TO; Manufacturer: Nichicon; TemperatureRange: -55C ~ 105C; Type: Polar; Ripple Current: 780mA @ 120Hz; Impedance: 110 mOhm; Value: 150uF; PartId: 24041; Supplier 1: Digi-Key; Supplier Part Number 1: 493-12200-1-ND; ComponentLink1Description: Datasheet; ComponentLink1URL: http://nichicon-us.com/english/products/pdfs/e-upm.pdf; ComponentLink2Description: Digi-Key Listing; ComponentLink2URL: https://www.digikey.com/product-detail/en/nichicon/UPM2A151MHD1TO/493-12200-1-ND/4319671; Tolerance: 20%; Voltage: 100V; Price: 1.12; Device Package: Radial, Can, 12.5mm
footprint CAP AL TH D12.5 L5 H27
pins: 1, 2

## UPM2A181MHD
designator C?, comment 180uF  (value not drawn)
CAP ALUM 180UF 20% 100V RADIAL; Part Number: UPM2A181MHD; Manufacturer: Nichicon; TemperatureRange: -55C ~ 105C; Type: Polar; Ripple Current: 900mA @ 120Hz; Impedance: 98 mOhm; Value: 180uF; PartId: 24284; Supplier 1: Digi-Key; Supplier Part Number 1: 493-5633-ND; ComponentLink1Description: Datasheet; ComponentLink1URL: http://nichicon-us.com/english/products/pdfs/e-upm.pdf; ComponentLink2Description: Digi-Key Listing; ComponentLink2URL: https://www.digikey.com/product-detail/en/nichicon/UPM2A181MHD/493-5633-ND/2599792; Tolerance: 20%; Voltage: 100V; Price: 1.1; Device Package: Radial, Can, 12.5mm
footprint CAP AL TH D12.5 L5 H35.5
pins: 1, 2

## UPM2A181MHD6TN
designator C?, comment 180uF  (value not drawn)
CAP ALUM 180UF 20% 100V RADIAL; Part Number: UPM2A181MHD6TN; Manufacturer: Nichicon; TemperatureRange: -55C ~ 105C; Type: Polar; Ripple Current: 880mA @ 120Hz; Impedance: 110 mOhm; Value: 180uF; PartId: 26364; Supplier 1: Digi-Key; Supplier Part Number 1: 493-5298-3-ND; ComponentLink1Description: Datasheet; ComponentLink1URL: http://nichicon-us.com/english/products/pdfs/e-upm.pdf; ComponentLink2Description: Digi-Key Listing; ComponentLink2URL: https://www.digikey.com/product-detail/en/nichicon/UPM2A181MHD6TN/493-5298-3-ND/3130303; Tolerance: 20%; Voltage: 100V; Price: 0.549; Device Package: Radial, Can, 16mm
footprint CAP AL TH D16 L7.5 H22
pins: 1, 2

## UPM2A270MPD6TD
designator C?, comment 27uF  (value not drawn)
CAP ALUM 27UF 20% 100V RADIAL; Part Number: UPM2A270MPD6TD; Manufacturer: Nichicon; TemperatureRange: -55C ~ 105C; Type: Polar; Ripple Current: 205mA @ 120Hz; Impedance: 500 mOhm; Value: 27uF; PartId: 24547; Supplier 1: Digi-Key; Supplier Part Number 1: 493-11796-3-ND; ComponentLink1Description: Datasheet; ComponentLink1URL: http://nichicon-us.com/english/products/pdfs/e-upm.pdf; ComponentLink2Description: Digi-Key Listing; ComponentLink2URL: https://www.digikey.com/product-detail/en/nichicon/UPM2A270MPD6TD/493-11796-3-ND/4320939; Tolerance: 20%; Voltage: 100V; Price: 0.148; Device Package: Radial, Can, 10mm
footprint CAP AL TH D10 L5 H14.5
pins: 1, 2

## UPM2A330MPD6TD
designator C?, comment 33uF  (value not drawn)
CAP ALUM 33UF 20% 100V RADIAL; Part Number: UPM2A330MPD6TD; Manufacturer: Nichicon; TemperatureRange: -55C ~ 105C; Type: Polar; Ripple Current: 230mA @ 120Hz; Impedance: 420 mOhm; Value: 33uF; PartId: 24575; Supplier 1: Digi-Key; Supplier Part Number 1: 493-11824-3-ND; ComponentLink1Description: Datasheet; ComponentLink1URL: http://nichicon-us.com/english/products/pdfs/e-upm.pdf; ComponentLink2Description: Digi-Key Listing; ComponentLink2URL: https://www.digikey.com/product-detail/en/nichicon/UPM2A330MPD6TD/493-11824-3-ND/4320967; Tolerance: 20%; Voltage: 100V; Price: 0.158; Device Package: Radial, Can, 10mm
footprint CAP AL TH D10 L5 H14.5
pins: 1, 2

## UPM2A331MHD
designator C?, comment 330uF  (value not drawn)
CAP ALUM 330UF 20% 100V RADIAL; Part Number: UPM2A331MHD; Manufacturer: Nichicon; TemperatureRange: -55C ~ 105C; Type: Polar; Ripple Current: 1.37A @ 120Hz; Impedance: 62 mOhm; Value: 330uF; PartId: 27131; Supplier 1: Digi-Key; Supplier Part Number 1: 493-5635-ND; ComponentLink1Description: Datasheet; ComponentLink1URL: http://nichicon-us.com/english/products/pdfs/e-upm.pdf; ComponentLink2Description: Digi-Key Listing; ComponentLink2URL: https://www.digikey.com/product-detail/en/nichicon/UPM2A331MHD/493-5635-ND/2599804; Tolerance: 20%; Voltage: 100V; Price: 1.78; Device Package: Radial, Can, 16mm
footprint CAP AL TH D16 L7.5 H33.5
pins: 1, 2

## UPM2A390MPD6TD
designator C?, comment 39uF  (value not drawn)
CAP ALUM 39UF 20% 100V RADIAL; Part Number: UPM2A390MPD6TD; Manufacturer: Nichicon; TemperatureRange: -55C ~ 105C; Type: Polar; Ripple Current: 285mA @ 120Hz; Impedance: 360 mOhm; Value: 39uF; PartId: 25082; Supplier 1: Digi-Key; Supplier Part Number 1: 493-5302-3-ND; ComponentLink1Description: Datasheet; ComponentLink1URL: http://nichicon-us.com/english/products/pdfs/e-upm.pdf; ComponentLink2Description: Digi-Key Listing; ComponentLink2URL: https://www.digikey.com/product-detail/en/nichicon/UPM2A390MPD6TD/493-5302-3-ND/3130307; Tolerance: 20%; Voltage: 100V; Price: 0.239; Device Package: Radial, Can, 10mm
footprint CAP AL TH D10 L5 H17.5
pins: 1, 2

## UPM2A470MPD1TD
designator C?, comment 47uF  (value not drawn)
CAP ALUM 47UF 20% 100V RADIAL; Part Number: UPM2A470MPD1TD; Manufacturer: Nichicon; TemperatureRange: -55C ~ 105C; Type: Polar; Ripple Current: 340mA @ 120Hz; Impedance: 280 mOhm; Value: 47uF; PartId: 25742; Supplier 1: Digi-Key; Supplier Part Number 1: 493-11903-3-ND; ComponentLink1Description: Datasheet; ComponentLink1URL: http://nichicon-us.com/english/products/pdfs/e-upm.pdf; ComponentLink2Description: Digi-Key Listing; ComponentLink2URL: https://www.digikey.com/product-detail/en/nichicon/UPM2A470MPD1TD/493-11903-3-ND/4321046; Tolerance: 20%; Voltage: 100V; Price: 0.1954; Device Package: Radial, Can, 10mm
footprint CAP AL TH D10 L5 H22
pins: 1, 2

## UPM2A560MHD6TO
designator C?, comment 56uF  (value not drawn)
CAP ALUM 56UF 20% 100V RADIAL; Part Number: UPM2A560MHD6TO; Manufacturer: Nichicon; TemperatureRange: -55C ~ 105C; Type: Polar; Ripple Current: 340mA @ 120Hz; Impedance: 270 mOhm; Value: 56uF; PartId: 22810; Supplier 1: Digi-Key; Supplier Part Number 1: 493-12057-1-ND; ComponentLink1Description: Datasheet; ComponentLink1URL: http://nichicon-us.com/english/products/pdfs/e-upm.pdf; ComponentLink2Description: Digi-Key Listing; ComponentLink2URL: https://www.digikey.com/product-detail/en/nichicon/UPM2A560MHD6TO/493-12057-1-ND/4319683; Tolerance: 20%; Voltage: 100V; Price: 0; Device Package: Radial, Can, 12.5mm
footprint CAP AL TH D12.5 L5 H17.5
pins: 1, 2

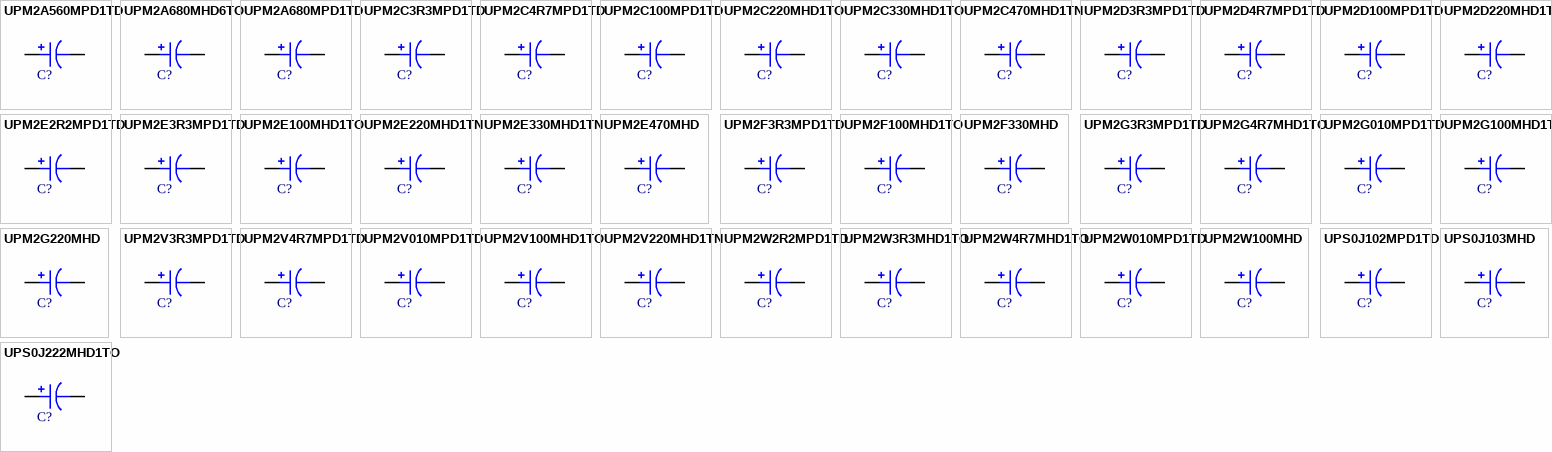
[diagram p89: symbols UPM2A560MPD1TD to UPS0J222MHD1TO]

## UPM2A560MPD1TD
designator C?, comment 56uF  (value not drawn)
CAP ALUM 56UF 20% 100V RADIAL; Part Number: UPM2A560MPD1TD; Manufacturer: Nichicon; TemperatureRange: -55C ~ 105C; Type: Polar; Ripple Current: 375mA @ 120Hz; Impedance: 240 mOhm; Value: 56uF; PartId: 25746; Supplier 1: Digi-Key; Supplier Part Number 1: 493-5305-3-ND; ComponentLink1Description: Datasheet; ComponentLink1URL: http://nichicon-us.com/english/products/pdfs/e-upm.pdf; ComponentLink2Description: Digi-Key Listing; ComponentLink2URL: https://www.digikey.com/product-detail/en/nichicon/UPM2A560MPD1TD/493-5305-3-ND/3130310; Tolerance: 20%; Voltage: 100V; Price: 0.1976; Device Package: Radial, Can, 10mm
footprint CAP AL TH D10 L5 H22
pins: 1, 2

## UPM2A680MHD6TO
designator C?, comment 68uF  (value not drawn)
CAP ALUM 68UF 20% 100V RADIAL; Part Number: UPM2A680MHD6TO; Manufacturer: Nichicon; TemperatureRange: -55C ~ 105C; Type: Polar; Ripple Current: 380mA @ 120Hz; Impedance: 230 mOhm; Value: 68uF; PartId: 22820; Supplier 1: Digi-Key; Supplier Part Number 1: 493-5306-1-ND; ComponentLink1Description: Datasheet; ComponentLink1URL: http://nichicon-us.com/english/products/pdfs/e-upm.pdf; ComponentLink2Description: Digi-Key Listing; ComponentLink2URL: https://www.digikey.com/product-detail/en/nichicon/UPM2A680MHD6TO/493-5306-1-ND/3129643; Tolerance: 20%; Voltage: 100V; Price: 0; Device Package: Radial, Can, 12.5mm
footprint CAP AL TH D12.5 L5 H17.5
pins: 1, 2

## UPM2A680MPD1TD
designator C?, comment 68uF  (value not drawn)
CAP ALUM 68UF 20% 100V RADIAL; Part Number: UPM2A680MPD1TD; Manufacturer: Nichicon; TemperatureRange: -55C ~ 105C; Type: Polar; Ripple Current: 500mA @ 120Hz; Impedance: 210 mOhm; Value: 68uF; PartId: 26016; Supplier 1: Digi-Key; Supplier Part Number 1: 493-5307-3-ND; ComponentLink1Description: Datasheet; ComponentLink1URL: http://nichicon-us.com/english/products/pdfs/e-upm.pdf; ComponentLink2Description: Digi-Key Listing; ComponentLink2URL: https://www.digikey.com/product-detail/en/nichicon/UPM2A680MPD1TD/493-5307-3-ND/3130312; Tolerance: 20%; Voltage: 100V; Price: 0.3399; Device Package: Radial, Can, 10mm
footprint CAP AL TH D10 L5 H30
pins: 1, 2

## UPM2C3R3MPD1TD
designator C?, comment 3.3uF  (value not drawn)
CAP ALUM 3.3UF 20% 160V RADIAL; Part Number: UPM2C3R3MPD1TD; Manufacturer: Nichicon; TemperatureRange: -40C ~ 105C; Type: Polar; Ripple Current: 50mA @ 120Hz; Value: 3.3uF; PartId: 24630; Supplier 1: Digi-Key; Supplier Part Number 1: 493-5311-3-ND; ComponentLink1Description: Datasheet; ComponentLink1URL: http://nichicon-us.com/english/products/pdfs/e-upm.pdf; ComponentLink2Description: Digi-Key Listing; ComponentLink2URL: https://www.digikey.com/product-detail/en/nichicon/UPM2C3R3MPD1TD/493-5311-3-ND/3130316; Tolerance: 20%; Voltage: 160V; Price: 0.2252; Device Package: Radial, Can, 10mm
footprint CAP AL TH D10 L5 H14.5
pins: 1, 2

## UPM2C4R7MPD1TD
designator C?, comment 4.7uF  (value not drawn)
CAP ALUM 4.7UF 20% 160V RADIAL; Part Number: UPM2C4R7MPD1TD; Manufacturer: Nichicon; TemperatureRange: -40C ~ 105C; Type: Polar; Ripple Current: 57mA @ 120Hz; Value: 4.7uF; PartId: 24632; Supplier 1: Digi-Key; Supplier Part Number 1: 493-5313-3-ND; ComponentLink1Description: Datasheet; ComponentLink1URL: http://nichicon-us.com/english/products/pdfs/e-upm.pdf; ComponentLink2Description: Digi-Key Listing; ComponentLink2URL: https://www.digikey.com/product-detail/en/nichicon/UPM2C4R7MPD1TD/493-5313-3-ND/3130318; Tolerance: 20%; Voltage: 160V; Price: 0.2252; Device Package: Radial, Can, 10mm
footprint CAP AL TH D10 L5 H14.5
pins: 1, 2

## UPM2C100MPD1TD
designator C?, comment 10uF  (value not drawn)
CAP ALUM 10UF 20% 160V RADIAL; Part Number: UPM2C100MPD1TD; Manufacturer: Nichicon; TemperatureRange: -40C ~ 105C; Type: Polar; Ripple Current: 90mA @ 120Hz; Value: 10uF; PartId: 25103; Supplier 1: Digi-Key; Supplier Part Number 1: 493-5308-3-ND; ComponentLink1Description: Datasheet; ComponentLink1URL: http://nichicon-us.com/english/products/pdfs/e-upm.pdf; ComponentLink2Description: Digi-Key Listing; ComponentLink2URL: https://www.digikey.com/product-detail/en/nichicon/UPM2C100MPD1TD/493-5308-3-ND/3130313; Tolerance: 20%; Voltage: 160V; Price: 0.2909; Device Package: Radial, Can, 10mm
footprint CAP AL TH D10 L5 H17.5
pins: 1, 2

## UPM2C220MHD1TO
designator C?, comment 22uF  (value not drawn)
CAP ALUM 22UF 20% 160V RADIAL; Part Number: UPM2C220MHD1TO; Manufacturer: Nichicon; TemperatureRange: -40C ~ 105C; Type: Polar; Ripple Current: 140mA @ 120Hz; Value: 22uF; PartId: 23421; Supplier 1: Digi-Key; Supplier Part Number 1: 493-12159-1-ND; ComponentLink1Description: Datasheet; ComponentLink1URL: http://nichicon-us.com/english/products/pdfs/e-upm.pdf; ComponentLink2Description: Digi-Key Listing; ComponentLink2URL: https://www.digikey.com/product-detail/en/nichicon/UPM2C220MHD1TO/493-12159-1-ND/4319689; Tolerance: 20%; Voltage: 160V; Price: 1; Device Package: Radial, Can, 12.5mm
footprint CAP AL TH D12.5 L5 H22
pins: 1, 2